# EAGLE library part LM13600 (library national-semiconductor)
Dual Operational Transconductance Amplifiers with Linearizing Diodes and Buffers Source: lm13600.PDF
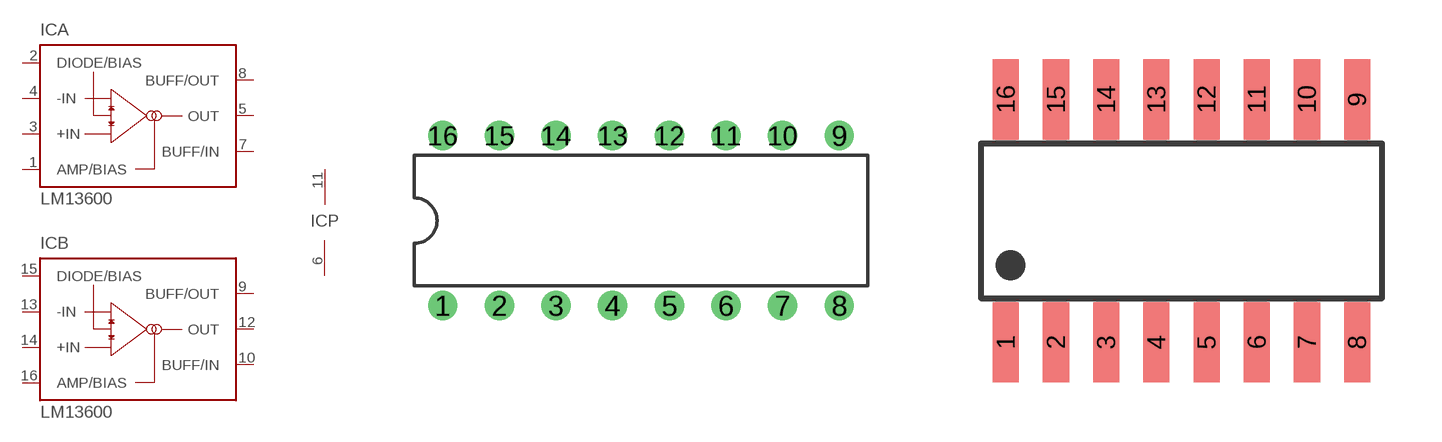
[diagram p11: symbol with the pads of DIL16; footprints DIL16, SO16]

Designator prefix IC; gates A=LM13600 B=LM13600 P=PWR+-

## LM13600N, LM13600AN  [DIL16]
1  A:AMP/BIAS  pas
2  A:DIODE/BIAS  pas
3  A:+IN  in
4  A:-IN  in
5  A:OUT  out
6  P:V-  pwr
7  A:BUFF/IN  in
8  A:BUFF/OUT  out
9  B:BUFF/OUT  out
10  B:BUFF/IN  in
11  P:V+  pwr
12  B:OUT  out
13  B:-IN  in
14  B:+IN  in
15  B:DIODE/BIAS  pas
16  B:AMP/BIAS  pas

## LM13600M  [SO16]
Pads as for DIL16

## Footprint DIL16 (pad centres in mm)
Dual In Line Package
drill 0.813 pad 1.27: 1 -8.89,-3.81; 2 -6.35,-3.81; 3 -3.81,-3.81; 4 -1.27,-3.81; 5 1.27,-3.81; 6 3.81,-3.81; 7 6.35,-3.81; 8 8.89,-3.81; 9 8.89,3.81; 10 6.35,3.81; 11 3.81,3.81; 12 1.27,3.81; 13 -1.27,3.81; 14 -3.81,3.81; 15 -6.35,3.81; 16 -8.89,3.81

## Footprint SO16 (pad centres in mm)
S.O. Package (M) NS Package Number M16A Source: lm13600.PDF
smd 0.66 x 2.032: 1 -4.445,-3.073; 2 -3.175,-3.073; 3 -1.905,-3.073; 4 -0.635,-3.073; 5 0.635,-3.073; 6 1.905,-3.073; 7 3.175,-3.073; 8 4.445,-3.073; 9 4.445,3.073; 10 3.175,3.073; 11 1.905,3.073; 12 0.635,3.073; 13 -0.635,3.073; 14 -1.905,3.073; 15 -3.175,3.073; 16 -4.445,3.073